# Altium footprint library 10000pF-Cap.PcbLib: 3 footprints
Each footprint in its own frame and in the unit in brackets; x right, y up, seen from the top. Pads: shape width x height; smd on the part's side, far side on the other; paste and mask are expansions set on the pad; w line width, h text height; cw(c..) or ccw(c..) is an arc to the next point about the centre after c.
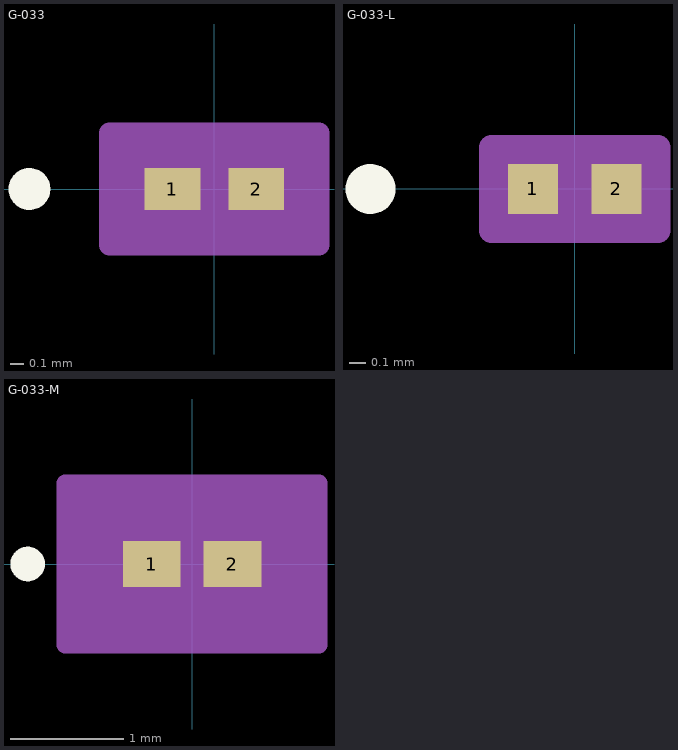
[diagram p0: the footprints below, top view; thin cyan lines are the x and y axes]

## G-033 [mil]
pads (2):
  rect 16x12 smd paste+0 mask+0: 1(-12,0) 2(12,0)
Top Overlay:
  circle w6: c-53,0 r3
Mechanical 13:
  circle w0: c-7,0 r3
  lines w1: -12,-6 -12,6 ; -12,-6 -4,-6 -4,6 -12,6 ; -12,-6 12,-6 ; -12,-6 -12,6 ; -12,6 12,6 ; 12,-6 4,-6 4,6 12,6 ; 12,-6 12,6 ; 12,-6 12,6
Mechanical 15:
  region: 30,-16 -30,-16 -30,16 30,16
  lines w6: -30,-16 -30,16 30,16 30,-16 -30,-16
3D body: height 10, standoff 0, extent 0,0 10,10

## G-033-L [mil]
pads (2):
  rect 12x12 smd paste+0 mask+0: 1(-10,0) 2(10,0)
Top Overlay:
  circle w6: c-49,0 r3
Mechanical 13:
  circle w0: c-5,0 r3
  lines w1: -12,-6 -12,6 ; -12,-6 -4,-6 -4,6 -12,6 ; -12,-6 12,-6 ; -12,-6 -12,6 ; -12,6 12,6 ; 12,-6 4,-6 4,6 12,6 ; 12,-6 12,6 ; 12,-6 12,6
Mechanical 15:
  region: 20,-10 -20,-10 -20,10 20,10
  lines w6: -20,-10 -20,10 20,10 20,-10 -20,-10
3D body: height 10, standoff 0, extent 0,0 10,10

## G-033-M [mil]
pads (2):
  rect 20x16 smd paste+0 mask+0: 1(-14,0) 2(14,0)
Top Overlay:
  circle w6: c-57,0 r3
Mechanical 13:
  circle w0: c-9,0 r3
  lines w1: -12,-6 -12,6 ; -12,-6 -4,-6 -4,6 -12,6 ; -12,-6 12,-6 ; -12,-6 -12,6 ; -12,6 12,6 ; 12,-6 4,-6 4,6 12,6 ; 12,-6 12,6 ; 12,-6 12,6
Mechanical 15:
  region: 44,-28 -44,-28 -44,28 44,28
  lines w6: -44,-28 -44,28 44,28 44,-28 -44,-28
3D body: height 10, standoff 0, extent 0,0 10,10